# EAGLE library part USB_TYP-B (library 000_eigene_Bauteile)
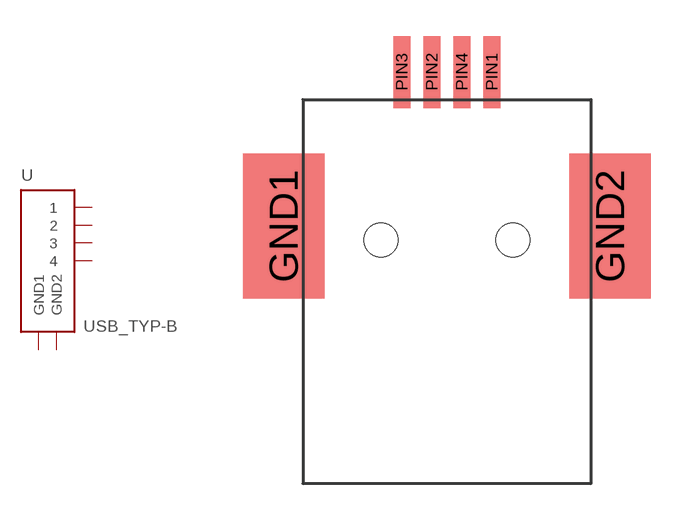
[diagram p1: symbol with the pads of USB_TYP-B; footprint USB_TYP-B]

Designator prefix -

## USB_TYP-B  [USB_TYP-B]
GND1  GND1
GND2  GND2
PIN1  1
PIN2  2
PIN3  3
PIN4  4

## Footprint USB_TYP-B (pad centres in mm)
smd 3.4 x 6.04: GND1 -6.8,0.58; GND2 6.8,0.58
smd 0.7 x 3: PIN1 1.875,7; PIN2 -0.625,7; PIN3 -1.875,7; PIN4 0.625,7
hole 1.4 at -2.75,0
hole 1.4 at 2.75,0